# Altium integrated library Spansion Memory Flash.IntLib: 812 symbols (part 7 of 21)
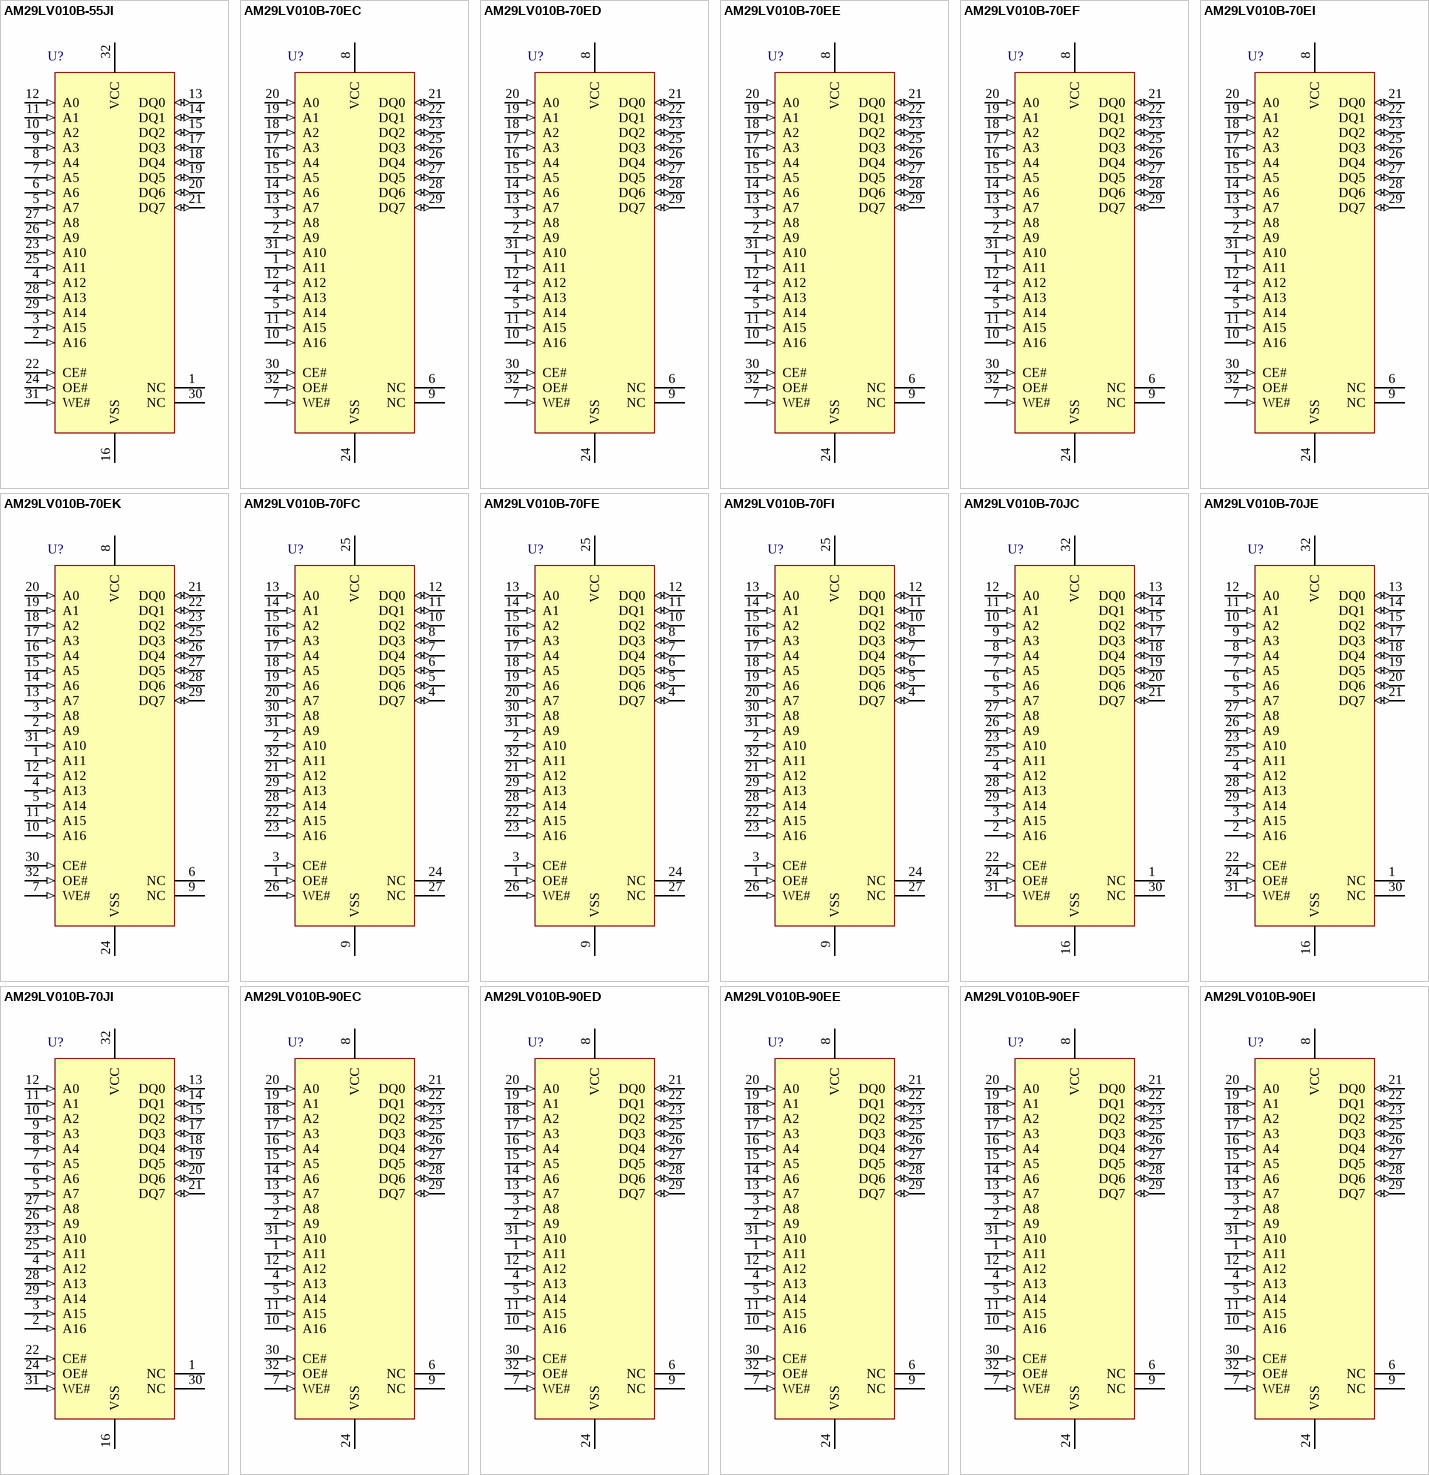
[diagram p72: symbols AM29LV010B-55JI to AM29LV010B-90EI]

## AM29LV010B-55JI
designator U?
1 Mb (128 K x 8) CMOS 3.0 Volt Uniform Sector Flash Memory, 32-Pin Rectangular PLCC, Industrial Grade; Published: 6-Oct-2005; DatasheetVersion: Jun-2005; PackageVersion: revAH, 10/99; PackageReference: PL032; Publisher: Altium Limited; PackageDescription: Leaded Chip Carrier, Plastic; 32 Leads; Body 11.4 x 14 mm; Code_JEDEC: MS-016-AE; Code_IPC: PLCC/R-32; ComponentLink1Description: Manufacturer Link; ComponentLink1URL: http://www.spansion.com/; ComponentLink2Description: Datasheet; ComponentLink2URL: http://www.spansion.com/datasheets/22140d3.pdf
footprint PL032 (Leaded Chip Carrier, Plastic; 32 Leads; Body 11.4 x 14 mm)
pins: 1 NC, 2 A16 (in), 3 A15 (in), 4 A12 (in), 5 A7 (in), 6 A6 (in), 7 A5 (in), 8 A4 (in), 9 A3 (in), 10 A2 (in), 11 A1 (in), 12 A0 (in), 13 DQ0 (io), 14 DQ1 (io), 15 DQ2 (io), 16 VSS (power), 17 DQ3 (io), 18 DQ4 (io), 19 DQ5 (io), 20 DQ6 (io), 21 DQ7 (io), 22 CE# (in), 23 A10 (in), 24 OE# (in), 25 A11 (in), 26 A9 (in), 27 A8 (in), 28 A13 (in), 29 A14 (in), 30 NC, 31 WE# (in), 32 VCC (power)

## AM29LV010B-70EC
designator U?
1 Mb (128 K x 8) CMOS 3.0 Volt Uniform Sector Flash Memory, 32-Pin TSOP Standard Pinout, Commercial Grade; Published: 6-Oct-2005; DatasheetVersion: Jun-2005; PackageVersion: revAA, 10/99; PackageReference: TS032; Publisher: Altium Limited; PackageDescription: Thin Small Outline; 32 Leads; Body Width 18.4 mm; Pitch 0.5 mm; Code_JEDEC: MO-142-BD; ComponentLink1Description: Manufacturer Link; ComponentLink1URL: http://www.spansion.com/; ComponentLink2Description: Datasheet; ComponentLink2URL: http://www.spansion.com/datasheets/22140d3.pdf
footprint TS032 (Thin Small Outline; 32 Leads; Body Width 18.4 mm; Pitch 0.5 mm)
pins: 1 A11 (in), 2 A9 (in), 3 A8 (in), 4 A13 (in), 5 A14 (in), 6 NC, 7 WE# (in), 8 VCC (power), 9 NC, 10 A16 (in), 11 A15 (in), 12 A12 (in), 13 A7 (in), 14 A6 (in), 15 A5 (in), 16 A4 (in), 17 A3 (in), 18 A2 (in), 19 A1 (in), 20 A0 (in), 21 DQ0 (io), 22 DQ1 (io), 23 DQ2 (io), 24 VSS (power), 25 DQ3 (io), 26 DQ4 (io), 27 DQ5 (io), 28 DQ6 (io), 29 DQ7 (io), 30 CE# (in), 31 A10 (in), 32 OE# (in)

## AM29LV010B-70ED
designator U?
1 Mb (128 K x 8) CMOS 3.0 Volt Uniform Sector Flash Memory, 32-Pin TSOP Standard Pinout, Commercial Grade, Pb-free; Published: 6-Oct-2005; DatasheetVersion: Jun-2005; PackageVersion: revAA, 10/99; PackageReference: TS032; Publisher: Altium Limited; PackageDescription: Thin Small Outline; 32 Leads; Body Width 18.4 mm; Pitch 0.5 mm; Code_JEDEC: MO-142-BD; ComponentLink1Description: Manufacturer Link; ComponentLink1URL: http://www.spansion.com/; ComponentLink2Description: Datasheet; ComponentLink2URL: http://www.spansion.com/datasheets/22140d3.pdf
footprint TS032 (Thin Small Outline; 32 Leads; Body Width 18.4 mm; Pitch 0.5 mm)
pins: 1 A11 (in), 2 A9 (in), 3 A8 (in), 4 A13 (in), 5 A14 (in), 6 NC, 7 WE# (in), 8 VCC (power), 9 NC, 10 A16 (in), 11 A15 (in), 12 A12 (in), 13 A7 (in), 14 A6 (in), 15 A5 (in), 16 A4 (in), 17 A3 (in), 18 A2 (in), 19 A1 (in), 20 A0 (in), 21 DQ0 (io), 22 DQ1 (io), 23 DQ2 (io), 24 VSS (power), 25 DQ3 (io), 26 DQ4 (io), 27 DQ5 (io), 28 DQ6 (io), 29 DQ7 (io), 30 CE# (in), 31 A10 (in), 32 OE# (in)

## AM29LV010B-70EE
designator U?
1 Mb (128 K x 8) CMOS 3.0 Volt Uniform Sector Flash Memory, 32-Pin TSOP Standard Pinout, Extended Grade; Published: 6-Oct-2005; DatasheetVersion: Jun-2005; PackageVersion: revAA, 10/99; PackageReference: TS032; Publisher: Altium Limited; PackageDescription: Thin Small Outline; 32 Leads; Body Width 18.4 mm; Pitch 0.5 mm; Code_JEDEC: MO-142-BD; ComponentLink1Description: Manufacturer Link; ComponentLink1URL: http://www.spansion.com/; ComponentLink2Description: Datasheet; ComponentLink2URL: http://www.spansion.com/datasheets/22140d3.pdf
footprint TS032 (Thin Small Outline; 32 Leads; Body Width 18.4 mm; Pitch 0.5 mm)
pins: 1 A11 (in), 2 A9 (in), 3 A8 (in), 4 A13 (in), 5 A14 (in), 6 NC, 7 WE# (in), 8 VCC (power), 9 NC, 10 A16 (in), 11 A15 (in), 12 A12 (in), 13 A7 (in), 14 A6 (in), 15 A5 (in), 16 A4 (in), 17 A3 (in), 18 A2 (in), 19 A1 (in), 20 A0 (in), 21 DQ0 (io), 22 DQ1 (io), 23 DQ2 (io), 24 VSS (power), 25 DQ3 (io), 26 DQ4 (io), 27 DQ5 (io), 28 DQ6 (io), 29 DQ7 (io), 30 CE# (in), 31 A10 (in), 32 OE# (in)

## AM29LV010B-70EF
designator U?
1 Mb (128 K x 8) CMOS 3.0 Volt Uniform Sector Flash Memory, 32-Pin TSOP Standard Pinout, Industrial Grade, Pb-free; Published: 6-Oct-2005; DatasheetVersion: Jun-2005; PackageVersion: revAA, 10/99; PackageReference: TS032; Publisher: Altium Limited; PackageDescription: Thin Small Outline; 32 Leads; Body Width 18.4 mm; Pitch 0.5 mm; Code_JEDEC: MO-142-BD; ComponentLink1Description: Manufacturer Link; ComponentLink1URL: http://www.spansion.com/; ComponentLink2Description: Datasheet; ComponentLink2URL: http://www.spansion.com/datasheets/22140d3.pdf
footprint TS032 (Thin Small Outline; 32 Leads; Body Width 18.4 mm; Pitch 0.5 mm)
pins: 1 A11 (in), 2 A9 (in), 3 A8 (in), 4 A13 (in), 5 A14 (in), 6 NC, 7 WE# (in), 8 VCC (power), 9 NC, 10 A16 (in), 11 A15 (in), 12 A12 (in), 13 A7 (in), 14 A6 (in), 15 A5 (in), 16 A4 (in), 17 A3 (in), 18 A2 (in), 19 A1 (in), 20 A0 (in), 21 DQ0 (io), 22 DQ1 (io), 23 DQ2 (io), 24 VSS (power), 25 DQ3 (io), 26 DQ4 (io), 27 DQ5 (io), 28 DQ6 (io), 29 DQ7 (io), 30 CE# (in), 31 A10 (in), 32 OE# (in)

## AM29LV010B-70EI
designator U?
1 Mb (128 K x 8) CMOS 3.0 Volt Uniform Sector Flash Memory, 32-Pin TSOP Standard Pinout, Industrial Grade; Published: 6-Oct-2005; DatasheetVersion: Jun-2005; PackageVersion: revAA, 10/99; PackageReference: TS032; Publisher: Altium Limited; PackageDescription: Thin Small Outline; 32 Leads; Body Width 18.4 mm; Pitch 0.5 mm; Code_JEDEC: MO-142-BD; ComponentLink1Description: Manufacturer Link; ComponentLink1URL: http://www.spansion.com/; ComponentLink2Description: Datasheet; ComponentLink2URL: http://www.spansion.com/datasheets/22140d3.pdf
footprint TS032 (Thin Small Outline; 32 Leads; Body Width 18.4 mm; Pitch 0.5 mm)
pins: 1 A11 (in), 2 A9 (in), 3 A8 (in), 4 A13 (in), 5 A14 (in), 6 NC, 7 WE# (in), 8 VCC (power), 9 NC, 10 A16 (in), 11 A15 (in), 12 A12 (in), 13 A7 (in), 14 A6 (in), 15 A5 (in), 16 A4 (in), 17 A3 (in), 18 A2 (in), 19 A1 (in), 20 A0 (in), 21 DQ0 (io), 22 DQ1 (io), 23 DQ2 (io), 24 VSS (power), 25 DQ3 (io), 26 DQ4 (io), 27 DQ5 (io), 28 DQ6 (io), 29 DQ7 (io), 30 CE# (in), 31 A10 (in), 32 OE# (in)

## AM29LV010B-70EK
designator U?
1 Mb (128 K x 8) CMOS 3.0 Volt Uniform Sector Flash Memory, 32-Pin TSOP Standard Pinout, Extended Grade, Pb-free; Published: 6-Oct-2005; DatasheetVersion: Jun-2005; PackageVersion: revAA, 10/99; PackageReference: TS032; Publisher: Altium Limited; PackageDescription: Thin Small Outline; 32 Leads; Body Width 18.4 mm; Pitch 0.5 mm; Code_JEDEC: MO-142-BD; ComponentLink1Description: Manufacturer Link; ComponentLink1URL: http://www.spansion.com/; ComponentLink2Description: Datasheet; ComponentLink2URL: http://www.spansion.com/datasheets/22140d3.pdf
footprint TS032 (Thin Small Outline; 32 Leads; Body Width 18.4 mm; Pitch 0.5 mm)
pins: 1 A11 (in), 2 A9 (in), 3 A8 (in), 4 A13 (in), 5 A14 (in), 6 NC, 7 WE# (in), 8 VCC (power), 9 NC, 10 A16 (in), 11 A15 (in), 12 A12 (in), 13 A7 (in), 14 A6 (in), 15 A5 (in), 16 A4 (in), 17 A3 (in), 18 A2 (in), 19 A1 (in), 20 A0 (in), 21 DQ0 (io), 22 DQ1 (io), 23 DQ2 (io), 24 VSS (power), 25 DQ3 (io), 26 DQ4 (io), 27 DQ5 (io), 28 DQ6 (io), 29 DQ7 (io), 30 CE# (in), 31 A10 (in), 32 OE# (in)

## AM29LV010B-70FC
designator U?
1 Mb (128 K x 8) CMOS 3.0 Volt Uniform Sector Flash Memory, 32-Pin TSOP Reverse Pinout, Commercial Grade; Published: 6-Oct-2005; DatasheetVersion: Jun-2005; PackageVersion: revAA, 10/99; PackageReference: TSR032; Publisher: Altium Limited; PackageDescription: Thin Small Outline, Reverse Pinout; 32 Leads; Body Width 18.4 mm; Pitch 0.5 mm; Code_JEDEC: MO-142-BD; ComponentLink1Description: Manufacturer Link; ComponentLink1URL: http://www.spansion.com/; ComponentLink2Description: Datasheet; ComponentLink2URL: http://www.spansion.com/datasheets/22140d3.pdf
footprint TSR032 (Thin Small Outline, Reverse Pinout; 32 Leads; Body Width 18.4 mm; Pitch 0.5 mm)
pins: 1 OE# (in), 2 A10 (in), 3 CE# (in), 4 DQ7 (io), 5 DQ6 (io), 6 DQ5 (io), 7 DQ4 (io), 8 DQ3 (io), 9 VSS (power), 10 DQ2 (io), 11 DQ1 (io), 12 DQ0 (io), 13 A0 (in), 14 A1 (in), 15 A2 (in), 16 A3 (in), 17 A4 (in), 18 A5 (in), 19 A6 (in), 20 A7 (in), 21 A12 (in), 22 A15 (in), 23 A16 (in), 24 NC, 25 VCC (power), 26 WE# (in), 27 NC, 28 A14 (in), 29 A13 (in), 30 A8 (in), 31 A9 (in), 32 A11 (in)

## AM29LV010B-70FE
designator U?
1 Mb (128 K x 8) CMOS 3.0 Volt Uniform Sector Flash Memory, 32-Pin TSOP Reverse Pinout, Extended Grade; Published: 6-Oct-2005; DatasheetVersion: Jun-2005; PackageVersion: revAA, 10/99; PackageReference: TSR032; Publisher: Altium Limited; PackageDescription: Thin Small Outline, Reverse Pinout; 32 Leads; Body Width 18.4 mm; Pitch 0.5 mm; Code_JEDEC: MO-142-BD; ComponentLink1Description: Manufacturer Link; ComponentLink1URL: http://www.spansion.com/; ComponentLink2Description: Datasheet; ComponentLink2URL: http://www.spansion.com/datasheets/22140d3.pdf
footprint TSR032 (Thin Small Outline, Reverse Pinout; 32 Leads; Body Width 18.4 mm; Pitch 0.5 mm)
pins: 1 OE# (in), 2 A10 (in), 3 CE# (in), 4 DQ7 (io), 5 DQ6 (io), 6 DQ5 (io), 7 DQ4 (io), 8 DQ3 (io), 9 VSS (power), 10 DQ2 (io), 11 DQ1 (io), 12 DQ0 (io), 13 A0 (in), 14 A1 (in), 15 A2 (in), 16 A3 (in), 17 A4 (in), 18 A5 (in), 19 A6 (in), 20 A7 (in), 21 A12 (in), 22 A15 (in), 23 A16 (in), 24 NC, 25 VCC (power), 26 WE# (in), 27 NC, 28 A14 (in), 29 A13 (in), 30 A8 (in), 31 A9 (in), 32 A11 (in)

## AM29LV010B-70FI
designator U?
1 Mb (128 K x 8) CMOS 3.0 Volt Uniform Sector Flash Memory, 32-Pin TSOP Reverse Pinout, Industrial Grade; Published: 6-Oct-2005; DatasheetVersion: Jun-2005; PackageVersion: revAA, 10/99; PackageReference: TSR032; Publisher: Altium Limited; PackageDescription: Thin Small Outline, Reverse Pinout; 32 Leads; Body Width 18.4 mm; Pitch 0.5 mm; Code_JEDEC: MO-142-BD; ComponentLink1Description: Manufacturer Link; ComponentLink1URL: http://www.spansion.com/; ComponentLink2Description: Datasheet; ComponentLink2URL: http://www.spansion.com/datasheets/22140d3.pdf
footprint TSR032 (Thin Small Outline, Reverse Pinout; 32 Leads; Body Width 18.4 mm; Pitch 0.5 mm)
pins: 1 OE# (in), 2 A10 (in), 3 CE# (in), 4 DQ7 (io), 5 DQ6 (io), 6 DQ5 (io), 7 DQ4 (io), 8 DQ3 (io), 9 VSS (power), 10 DQ2 (io), 11 DQ1 (io), 12 DQ0 (io), 13 A0 (in), 14 A1 (in), 15 A2 (in), 16 A3 (in), 17 A4 (in), 18 A5 (in), 19 A6 (in), 20 A7 (in), 21 A12 (in), 22 A15 (in), 23 A16 (in), 24 NC, 25 VCC (power), 26 WE# (in), 27 NC, 28 A14 (in), 29 A13 (in), 30 A8 (in), 31 A9 (in), 32 A11 (in)

## AM29LV010B-70JC
designator U?
1 Mb (128 K x 8) CMOS 3.0 Volt Uniform Sector Flash Memory, 32-Pin Rectangular PLCC, Commercial Grade; Published: 6-Oct-2005; DatasheetVersion: Jun-2005; PackageVersion: revAH, 10/99; PackageReference: PL032; Publisher: Altium Limited; PackageDescription: Leaded Chip Carrier, Plastic; 32 Leads; Body 11.4 x 14 mm; Code_JEDEC: MS-016-AE; Code_IPC: PLCC/R-32; ComponentLink1Description: Manufacturer Link; ComponentLink1URL: http://www.spansion.com/; ComponentLink2Description: Datasheet; ComponentLink2URL: http://www.spansion.com/datasheets/22140d3.pdf
footprint PL032 (Leaded Chip Carrier, Plastic; 32 Leads; Body 11.4 x 14 mm)
pins: 1 NC, 2 A16 (in), 3 A15 (in), 4 A12 (in), 5 A7 (in), 6 A6 (in), 7 A5 (in), 8 A4 (in), 9 A3 (in), 10 A2 (in), 11 A1 (in), 12 A0 (in), 13 DQ0 (io), 14 DQ1 (io), 15 DQ2 (io), 16 VSS (power), 17 DQ3 (io), 18 DQ4 (io), 19 DQ5 (io), 20 DQ6 (io), 21 DQ7 (io), 22 CE# (in), 23 A10 (in), 24 OE# (in), 25 A11 (in), 26 A9 (in), 27 A8 (in), 28 A13 (in), 29 A14 (in), 30 NC, 31 WE# (in), 32 VCC (power)

## AM29LV010B-70JE
designator U?
1 Mb (128 K x 8) CMOS 3.0 Volt Uniform Sector Flash Memory, 32-Pin Rectangular PLCC, Extended Grade; Published: 6-Oct-2005; DatasheetVersion: Jun-2005; PackageVersion: revAH, 10/99; PackageReference: PL032; Publisher: Altium Limited; PackageDescription: Leaded Chip Carrier, Plastic; 32 Leads; Body 11.4 x 14 mm; Code_JEDEC: MS-016-AE; Code_IPC: PLCC/R-32; ComponentLink1Description: Manufacturer Link; ComponentLink1URL: http://www.spansion.com/; ComponentLink2Description: Datasheet; ComponentLink2URL: http://www.spansion.com/datasheets/22140d3.pdf
footprint PL032 (Leaded Chip Carrier, Plastic; 32 Leads; Body 11.4 x 14 mm)
pins: 1 NC, 2 A16 (in), 3 A15 (in), 4 A12 (in), 5 A7 (in), 6 A6 (in), 7 A5 (in), 8 A4 (in), 9 A3 (in), 10 A2 (in), 11 A1 (in), 12 A0 (in), 13 DQ0 (io), 14 DQ1 (io), 15 DQ2 (io), 16 VSS (power), 17 DQ3 (io), 18 DQ4 (io), 19 DQ5 (io), 20 DQ6 (io), 21 DQ7 (io), 22 CE# (in), 23 A10 (in), 24 OE# (in), 25 A11 (in), 26 A9 (in), 27 A8 (in), 28 A13 (in), 29 A14 (in), 30 NC, 31 WE# (in), 32 VCC (power)

## AM29LV010B-70JI
designator U?
1 Mb (128 K x 8) CMOS 3.0 Volt Uniform Sector Flash Memory, 32-Pin Rectangular PLCC, Industrial Grade; Published: 6-Oct-2005; DatasheetVersion: Jun-2005; PackageVersion: revAH, 10/99; PackageReference: PL032; Publisher: Altium Limited; PackageDescription: Leaded Chip Carrier, Plastic; 32 Leads; Body 11.4 x 14 mm; Code_JEDEC: MS-016-AE; Code_IPC: PLCC/R-32; ComponentLink1Description: Manufacturer Link; ComponentLink1URL: http://www.spansion.com/; ComponentLink2Description: Datasheet; ComponentLink2URL: http://www.spansion.com/datasheets/22140d3.pdf
footprint PL032 (Leaded Chip Carrier, Plastic; 32 Leads; Body 11.4 x 14 mm)
pins: 1 NC, 2 A16 (in), 3 A15 (in), 4 A12 (in), 5 A7 (in), 6 A6 (in), 7 A5 (in), 8 A4 (in), 9 A3 (in), 10 A2 (in), 11 A1 (in), 12 A0 (in), 13 DQ0 (io), 14 DQ1 (io), 15 DQ2 (io), 16 VSS (power), 17 DQ3 (io), 18 DQ4 (io), 19 DQ5 (io), 20 DQ6 (io), 21 DQ7 (io), 22 CE# (in), 23 A10 (in), 24 OE# (in), 25 A11 (in), 26 A9 (in), 27 A8 (in), 28 A13 (in), 29 A14 (in), 30 NC, 31 WE# (in), 32 VCC (power)

## AM29LV010B-90EC
designator U?
1 Mb (128 K x 8) CMOS 3.0 Volt Uniform Sector Flash Memory, 32-Pin TSOP Standard Pinout, Commercial Grade; Published: 6-Oct-2005; DatasheetVersion: Jun-2005; PackageVersion: revAA, 10/99; PackageReference: TS032; Publisher: Altium Limited; PackageDescription: Thin Small Outline; 32 Leads; Body Width 18.4 mm; Pitch 0.5 mm; Code_JEDEC: MO-142-BD; ComponentLink1Description: Manufacturer Link; ComponentLink1URL: http://www.spansion.com/; ComponentLink2Description: Datasheet; ComponentLink2URL: http://www.spansion.com/datasheets/22140d3.pdf
footprint TS032 (Thin Small Outline; 32 Leads; Body Width 18.4 mm; Pitch 0.5 mm)
pins: 1 A11 (in), 2 A9 (in), 3 A8 (in), 4 A13 (in), 5 A14 (in), 6 NC, 7 WE# (in), 8 VCC (power), 9 NC, 10 A16 (in), 11 A15 (in), 12 A12 (in), 13 A7 (in), 14 A6 (in), 15 A5 (in), 16 A4 (in), 17 A3 (in), 18 A2 (in), 19 A1 (in), 20 A0 (in), 21 DQ0 (io), 22 DQ1 (io), 23 DQ2 (io), 24 VSS (power), 25 DQ3 (io), 26 DQ4 (io), 27 DQ5 (io), 28 DQ6 (io), 29 DQ7 (io), 30 CE# (in), 31 A10 (in), 32 OE# (in)

## AM29LV010B-90ED
designator U?
1 Mb (128 K x 8) CMOS 3.0 Volt Uniform Sector Flash Memory, 32-Pin TSOP Standard Pinout, Commercial Grade, Pb-free; Published: 6-Oct-2005; DatasheetVersion: Jun-2005; PackageVersion: revAA, 10/99; PackageReference: TS032; Publisher: Altium Limited; PackageDescription: Thin Small Outline; 32 Leads; Body Width 18.4 mm; Pitch 0.5 mm; Code_JEDEC: MO-142-BD; ComponentLink1Description: Manufacturer Link; ComponentLink1URL: http://www.spansion.com/; ComponentLink2Description: Datasheet; ComponentLink2URL: http://www.spansion.com/datasheets/22140d3.pdf
footprint TS032 (Thin Small Outline; 32 Leads; Body Width 18.4 mm; Pitch 0.5 mm)
pins: 1 A11 (in), 2 A9 (in), 3 A8 (in), 4 A13 (in), 5 A14 (in), 6 NC, 7 WE# (in), 8 VCC (power), 9 NC, 10 A16 (in), 11 A15 (in), 12 A12 (in), 13 A7 (in), 14 A6 (in), 15 A5 (in), 16 A4 (in), 17 A3 (in), 18 A2 (in), 19 A1 (in), 20 A0 (in), 21 DQ0 (io), 22 DQ1 (io), 23 DQ2 (io), 24 VSS (power), 25 DQ3 (io), 26 DQ4 (io), 27 DQ5 (io), 28 DQ6 (io), 29 DQ7 (io), 30 CE# (in), 31 A10 (in), 32 OE# (in)

## AM29LV010B-90EE
designator U?
1 Mb (128 K x 8) CMOS 3.0 Volt Uniform Sector Flash Memory, 32-Pin TSOP Standard Pinout, Extended Grade; Published: 6-Oct-2005; DatasheetVersion: Jun-2005; PackageVersion: revAA, 10/99; PackageReference: TS032; Publisher: Altium Limited; PackageDescription: Thin Small Outline; 32 Leads; Body Width 18.4 mm; Pitch 0.5 mm; Code_JEDEC: MO-142-BD; ComponentLink1Description: Manufacturer Link; ComponentLink1URL: http://www.spansion.com/; ComponentLink2Description: Datasheet; ComponentLink2URL: http://www.spansion.com/datasheets/22140d3.pdf
footprint TS032 (Thin Small Outline; 32 Leads; Body Width 18.4 mm; Pitch 0.5 mm)
pins: 1 A11 (in), 2 A9 (in), 3 A8 (in), 4 A13 (in), 5 A14 (in), 6 NC, 7 WE# (in), 8 VCC (power), 9 NC, 10 A16 (in), 11 A15 (in), 12 A12 (in), 13 A7 (in), 14 A6 (in), 15 A5 (in), 16 A4 (in), 17 A3 (in), 18 A2 (in), 19 A1 (in), 20 A0 (in), 21 DQ0 (io), 22 DQ1 (io), 23 DQ2 (io), 24 VSS (power), 25 DQ3 (io), 26 DQ4 (io), 27 DQ5 (io), 28 DQ6 (io), 29 DQ7 (io), 30 CE# (in), 31 A10 (in), 32 OE# (in)

## AM29LV010B-90EF
designator U?
1 Mb (128 K x 8) CMOS 3.0 Volt Uniform Sector Flash Memory, 32-Pin TSOP Standard Pinout, Industrial Grade, Pb-free; Published: 6-Oct-2005; DatasheetVersion: Jun-2005; PackageVersion: revAA, 10/99; PackageReference: TS032; Publisher: Altium Limited; PackageDescription: Thin Small Outline; 32 Leads; Body Width 18.4 mm; Pitch 0.5 mm; Code_JEDEC: MO-142-BD; ComponentLink1Description: Manufacturer Link; ComponentLink1URL: http://www.spansion.com/; ComponentLink2Description: Datasheet; ComponentLink2URL: http://www.spansion.com/datasheets/22140d3.pdf
footprint TS032 (Thin Small Outline; 32 Leads; Body Width 18.4 mm; Pitch 0.5 mm)
pins: 1 A11 (in), 2 A9 (in), 3 A8 (in), 4 A13 (in), 5 A14 (in), 6 NC, 7 WE# (in), 8 VCC (power), 9 NC, 10 A16 (in), 11 A15 (in), 12 A12 (in), 13 A7 (in), 14 A6 (in), 15 A5 (in), 16 A4 (in), 17 A3 (in), 18 A2 (in), 19 A1 (in), 20 A0 (in), 21 DQ0 (io), 22 DQ1 (io), 23 DQ2 (io), 24 VSS (power), 25 DQ3 (io), 26 DQ4 (io), 27 DQ5 (io), 28 DQ6 (io), 29 DQ7 (io), 30 CE# (in), 31 A10 (in), 32 OE# (in)

## AM29LV010B-90EI
designator U?
1 Mb (128 K x 8) CMOS 3.0 Volt Uniform Sector Flash Memory, 32-Pin TSOP Standard Pinout, Industrial Grade; Published: 6-Oct-2005; DatasheetVersion: Jun-2005; PackageVersion: revAA, 10/99; PackageReference: TS032; Publisher: Altium Limited; PackageDescription: Thin Small Outline; 32 Leads; Body Width 18.4 mm; Pitch 0.5 mm; Code_JEDEC: MO-142-BD; ComponentLink1Description: Manufacturer Link; ComponentLink1URL: http://www.spansion.com/; ComponentLink2Description: Datasheet; ComponentLink2URL: http://www.spansion.com/datasheets/22140d3.pdf
footprint TS032 (Thin Small Outline; 32 Leads; Body Width 18.4 mm; Pitch 0.5 mm)
pins: 1 A11 (in), 2 A9 (in), 3 A8 (in), 4 A13 (in), 5 A14 (in), 6 NC, 7 WE# (in), 8 VCC (power), 9 NC, 10 A16 (in), 11 A15 (in), 12 A12 (in), 13 A7 (in), 14 A6 (in), 15 A5 (in), 16 A4 (in), 17 A3 (in), 18 A2 (in), 19 A1 (in), 20 A0 (in), 21 DQ0 (io), 22 DQ1 (io), 23 DQ2 (io), 24 VSS (power), 25 DQ3 (io), 26 DQ4 (io), 27 DQ5 (io), 28 DQ6 (io), 29 DQ7 (io), 30 CE# (in), 31 A10 (in), 32 OE# (in)

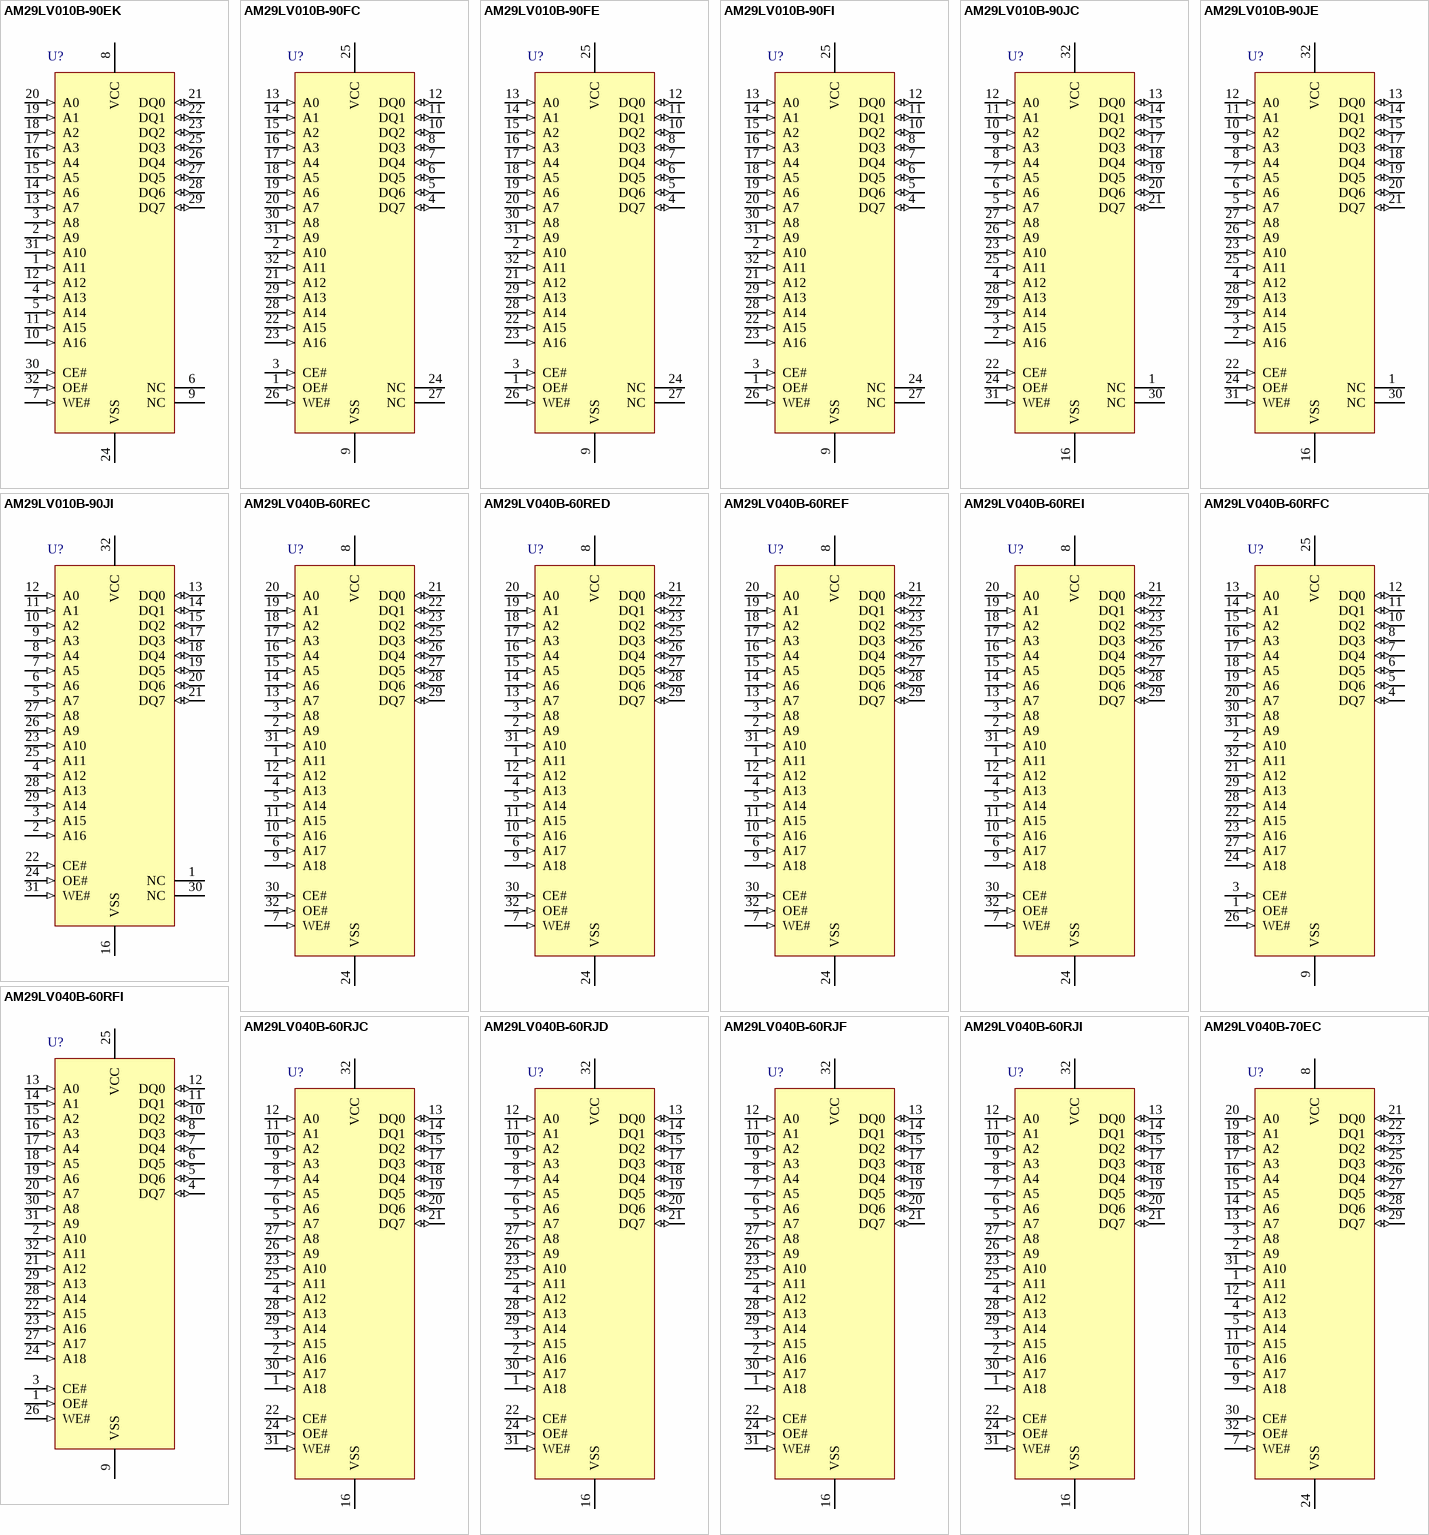
[diagram p20: symbols AM29LV010B-90EK to AM29LV040B-70EC]

## AM29LV010B-90EK
designator U?
1 Mb (128 K x 8) CMOS 3.0 Volt Uniform Sector Flash Memory, 32-Pin TSOP Standard Pinout, Extended Grade, Pb-free; Published: 6-Oct-2005; DatasheetVersion: Jun-2005; PackageVersion: revAA, 10/99; PackageReference: TS032; Publisher: Altium Limited; PackageDescription: Thin Small Outline; 32 Leads; Body Width 18.4 mm; Pitch 0.5 mm; Code_JEDEC: MO-142-BD; ComponentLink1Description: Manufacturer Link; ComponentLink1URL: http://www.spansion.com/; ComponentLink2Description: Datasheet; ComponentLink2URL: http://www.spansion.com/datasheets/22140d3.pdf
footprint TS032 (Thin Small Outline; 32 Leads; Body Width 18.4 mm; Pitch 0.5 mm)
pins: 1 A11 (in), 2 A9 (in), 3 A8 (in), 4 A13 (in), 5 A14 (in), 6 NC, 7 WE# (in), 8 VCC (power), 9 NC, 10 A16 (in), 11 A15 (in), 12 A12 (in), 13 A7 (in), 14 A6 (in), 15 A5 (in), 16 A4 (in), 17 A3 (in), 18 A2 (in), 19 A1 (in), 20 A0 (in), 21 DQ0 (io), 22 DQ1 (io), 23 DQ2 (io), 24 VSS (power), 25 DQ3 (io), 26 DQ4 (io), 27 DQ5 (io), 28 DQ6 (io), 29 DQ7 (io), 30 CE# (in), 31 A10 (in), 32 OE# (in)

## AM29LV010B-90FC
designator U?
1 Mb (128 K x 8) CMOS 3.0 Volt Uniform Sector Flash Memory, 32-Pin TSOP Reverse Pinout, Commercial Grade; Published: 6-Oct-2005; DatasheetVersion: Jun-2005; PackageVersion: revAA, 10/99; PackageReference: TSR032; Publisher: Altium Limited; PackageDescription: Thin Small Outline, Reverse Pinout; 32 Leads; Body Width 18.4 mm; Pitch 0.5 mm; Code_JEDEC: MO-142-BD; ComponentLink1Description: Manufacturer Link; ComponentLink1URL: http://www.spansion.com/; ComponentLink2Description: Datasheet; ComponentLink2URL: http://www.spansion.com/datasheets/22140d3.pdf
footprint TSR032 (Thin Small Outline, Reverse Pinout; 32 Leads; Body Width 18.4 mm; Pitch 0.5 mm)
pins: 1 OE# (in), 2 A10 (in), 3 CE# (in), 4 DQ7 (io), 5 DQ6 (io), 6 DQ5 (io), 7 DQ4 (io), 8 DQ3 (io), 9 VSS (power), 10 DQ2 (io), 11 DQ1 (io), 12 DQ0 (io), 13 A0 (in), 14 A1 (in), 15 A2 (in), 16 A3 (in), 17 A4 (in), 18 A5 (in), 19 A6 (in), 20 A7 (in), 21 A12 (in), 22 A15 (in), 23 A16 (in), 24 NC, 25 VCC (power), 26 WE# (in), 27 NC, 28 A14 (in), 29 A13 (in), 30 A8 (in), 31 A9 (in), 32 A11 (in)

## AM29LV010B-90FE
designator U?
1 Mb (128 K x 8) CMOS 3.0 Volt Uniform Sector Flash Memory, 32-Pin TSOP Reverse Pinout, Extended Grade; Published: 6-Oct-2005; DatasheetVersion: Jun-2005; PackageVersion: revAA, 10/99; PackageReference: TSR032; Publisher: Altium Limited; PackageDescription: Thin Small Outline, Reverse Pinout; 32 Leads; Body Width 18.4 mm; Pitch 0.5 mm; Code_JEDEC: MO-142-BD; ComponentLink1Description: Manufacturer Link; ComponentLink1URL: http://www.spansion.com/; ComponentLink2Description: Datasheet; ComponentLink2URL: http://www.spansion.com/datasheets/22140d3.pdf
footprint TSR032 (Thin Small Outline, Reverse Pinout; 32 Leads; Body Width 18.4 mm; Pitch 0.5 mm)
pins: 1 OE# (in), 2 A10 (in), 3 CE# (in), 4 DQ7 (io), 5 DQ6 (io), 6 DQ5 (io), 7 DQ4 (io), 8 DQ3 (io), 9 VSS (power), 10 DQ2 (io), 11 DQ1 (io), 12 DQ0 (io), 13 A0 (in), 14 A1 (in), 15 A2 (in), 16 A3 (in), 17 A4 (in), 18 A5 (in), 19 A6 (in), 20 A7 (in), 21 A12 (in), 22 A15 (in), 23 A16 (in), 24 NC, 25 VCC (power), 26 WE# (in), 27 NC, 28 A14 (in), 29 A13 (in), 30 A8 (in), 31 A9 (in), 32 A11 (in)

## AM29LV010B-90FI
designator U?
1 Mb (128 K x 8) CMOS 3.0 Volt Uniform Sector Flash Memory, 32-Pin TSOP Reverse Pinout, Industrial Grade; Published: 6-Oct-2005; DatasheetVersion: Jun-2005; PackageVersion: revAA, 10/99; PackageReference: TSR032; Publisher: Altium Limited; PackageDescription: Thin Small Outline, Reverse Pinout; 32 Leads; Body Width 18.4 mm; Pitch 0.5 mm; Code_JEDEC: MO-142-BD; ComponentLink1Description: Manufacturer Link; ComponentLink1URL: http://www.spansion.com/; ComponentLink2Description: Datasheet; ComponentLink2URL: http://www.spansion.com/datasheets/22140d3.pdf
footprint TSR032 (Thin Small Outline, Reverse Pinout; 32 Leads; Body Width 18.4 mm; Pitch 0.5 mm)
pins: 1 OE# (in), 2 A10 (in), 3 CE# (in), 4 DQ7 (io), 5 DQ6 (io), 6 DQ5 (io), 7 DQ4 (io), 8 DQ3 (io), 9 VSS (power), 10 DQ2 (io), 11 DQ1 (io), 12 DQ0 (io), 13 A0 (in), 14 A1 (in), 15 A2 (in), 16 A3 (in), 17 A4 (in), 18 A5 (in), 19 A6 (in), 20 A7 (in), 21 A12 (in), 22 A15 (in), 23 A16 (in), 24 NC, 25 VCC (power), 26 WE# (in), 27 NC, 28 A14 (in), 29 A13 (in), 30 A8 (in), 31 A9 (in), 32 A11 (in)

## AM29LV010B-90JC
designator U?
1 Mb (128 K x 8) CMOS 3.0 Volt Uniform Sector Flash Memory, 32-Pin Rectangular PLCC, Commercial Grade; Published: 6-Oct-2005; DatasheetVersion: Jun-2005; PackageVersion: revAH, 10/99; PackageReference: PL032; Publisher: Altium Limited; PackageDescription: Leaded Chip Carrier, Plastic; 32 Leads; Body 11.4 x 14 mm; Code_JEDEC: MS-016-AE; Code_IPC: PLCC/R-32; ComponentLink1Description: Manufacturer Link; ComponentLink1URL: http://www.spansion.com/; ComponentLink2Description: Datasheet; ComponentLink2URL: http://www.spansion.com/datasheets/22140d3.pdf
footprint PL032 (Leaded Chip Carrier, Plastic; 32 Leads; Body 11.4 x 14 mm)
pins: 1 NC, 2 A16 (in), 3 A15 (in), 4 A12 (in), 5 A7 (in), 6 A6 (in), 7 A5 (in), 8 A4 (in), 9 A3 (in), 10 A2 (in), 11 A1 (in), 12 A0 (in), 13 DQ0 (io), 14 DQ1 (io), 15 DQ2 (io), 16 VSS (power), 17 DQ3 (io), 18 DQ4 (io), 19 DQ5 (io), 20 DQ6 (io), 21 DQ7 (io), 22 CE# (in), 23 A10 (in), 24 OE# (in), 25 A11 (in), 26 A9 (in), 27 A8 (in), 28 A13 (in), 29 A14 (in), 30 NC, 31 WE# (in), 32 VCC (power)

## AM29LV010B-90JE
designator U?
1 Mb (128 K x 8) CMOS 3.0 Volt Uniform Sector Flash Memory, 32-Pin Rectangular PLCC, Extended Grade; Published: 6-Oct-2005; DatasheetVersion: Jun-2005; PackageVersion: revAH, 10/99; PackageReference: PL032; Publisher: Altium Limited; PackageDescription: Leaded Chip Carrier, Plastic; 32 Leads; Body 11.4 x 14 mm; Code_JEDEC: MS-016-AE; Code_IPC: PLCC/R-32; ComponentLink1Description: Manufacturer Link; ComponentLink1URL: http://www.spansion.com/; ComponentLink2Description: Datasheet; ComponentLink2URL: http://www.spansion.com/datasheets/22140d3.pdf
footprint PL032 (Leaded Chip Carrier, Plastic; 32 Leads; Body 11.4 x 14 mm)
pins: 1 NC, 2 A16 (in), 3 A15 (in), 4 A12 (in), 5 A7 (in), 6 A6 (in), 7 A5 (in), 8 A4 (in), 9 A3 (in), 10 A2 (in), 11 A1 (in), 12 A0 (in), 13 DQ0 (io), 14 DQ1 (io), 15 DQ2 (io), 16 VSS (power), 17 DQ3 (io), 18 DQ4 (io), 19 DQ5 (io), 20 DQ6 (io), 21 DQ7 (io), 22 CE# (in), 23 A10 (in), 24 OE# (in), 25 A11 (in), 26 A9 (in), 27 A8 (in), 28 A13 (in), 29 A14 (in), 30 NC, 31 WE# (in), 32 VCC (power)

## AM29LV010B-90JI
designator U?
1 Mb (128 K x 8) CMOS 3.0 Volt Uniform Sector Flash Memory, 32-Pin Rectangular PLCC, Industrial Grade; Published: 6-Oct-2005; DatasheetVersion: Jun-2005; PackageVersion: revAH, 10/99; PackageReference: PL032; Publisher: Altium Limited; PackageDescription: Leaded Chip Carrier, Plastic; 32 Leads; Body 11.4 x 14 mm; Code_JEDEC: MS-016-AE; Code_IPC: PLCC/R-32; ComponentLink1Description: Manufacturer Link; ComponentLink1URL: http://www.spansion.com/; ComponentLink2Description: Datasheet; ComponentLink2URL: http://www.spansion.com/datasheets/22140d3.pdf
footprint PL032 (Leaded Chip Carrier, Plastic; 32 Leads; Body 11.4 x 14 mm)
pins: 1 NC, 2 A16 (in), 3 A15 (in), 4 A12 (in), 5 A7 (in), 6 A6 (in), 7 A5 (in), 8 A4 (in), 9 A3 (in), 10 A2 (in), 11 A1 (in), 12 A0 (in), 13 DQ0 (io), 14 DQ1 (io), 15 DQ2 (io), 16 VSS (power), 17 DQ3 (io), 18 DQ4 (io), 19 DQ5 (io), 20 DQ6 (io), 21 DQ7 (io), 22 CE# (in), 23 A10 (in), 24 OE# (in), 25 A11 (in), 26 A9 (in), 27 A8 (in), 28 A13 (in), 29 A14 (in), 30 NC, 31 WE# (in), 32 VCC (power)

## AM29LV040B-60REC
designator U?
4 Mb (512 K x 8) CMOS 3.0 Volt Uniform Sector Flash Memory, 32-Pin TSOP Standard Pinout, Commercial Grade; Published: 6-Oct-2005; DatasheetVersion: Jul-2005; PackageVersion: revAA, 10/99; PackageReference: TS032; Publisher: Altium Limited; PackageDescription: Thin Small Outline; 32 Leads; Body Width 18.4 mm; Pitch 0.5 mm; Code_JEDEC: MO-142-BD; ComponentLink1Description: Manufacturer Link; ComponentLink1URL: http://www.spansion.com/; ComponentLink2Description: Datasheet; ComponentLink2URL: http://www.spansion.com/datasheets/21354e2.pdf
footprint TS032 (Thin Small Outline; 32 Leads; Body Width 18.4 mm; Pitch 0.5 mm)
pins: 1 A11 (in), 2 A9 (in), 3 A8 (in), 4 A13 (in), 5 A14 (in), 6 A17 (in), 7 WE# (in), 8 VCC (power), 9 A18 (in), 10 A16 (in), 11 A15 (in), 12 A12 (in), 13 A7 (in), 14 A6 (in), 15 A5 (in), 16 A4 (in), 17 A3 (in), 18 A2 (in), 19 A1 (in), 20 A0 (in), 21 DQ0 (io), 22 DQ1 (io), 23 DQ2 (io), 24 VSS (power), 25 DQ3 (io), 26 DQ4 (io), 27 DQ5 (io), 28 DQ6 (io), 29 DQ7 (io), 30 CE# (in), 31 A10 (in), 32 OE# (in)

## AM29LV040B-60RED
designator U?
4 Mb (512 K x 8) CMOS 3.0 Volt Uniform Sector Flash Memory, 32-Pin TSOP Standard Pinout, Commercial Grade, Pb-free; Published: 6-Oct-2005; DatasheetVersion: Jul-2005; PackageVersion: revAA, 10/99; PackageReference: TS032; Publisher: Altium Limited; PackageDescription: Thin Small Outline; 32 Leads; Body Width 18.4 mm; Pitch 0.5 mm; Code_JEDEC: MO-142-BD; ComponentLink1Description: Manufacturer Link; ComponentLink1URL: http://www.spansion.com/; ComponentLink2Description: Datasheet; ComponentLink2URL: http://www.spansion.com/datasheets/21354e2.pdf
footprint TS032 (Thin Small Outline; 32 Leads; Body Width 18.4 mm; Pitch 0.5 mm)
pins: 1 A11 (in), 2 A9 (in), 3 A8 (in), 4 A13 (in), 5 A14 (in), 6 A17 (in), 7 WE# (in), 8 VCC (power), 9 A18 (in), 10 A16 (in), 11 A15 (in), 12 A12 (in), 13 A7 (in), 14 A6 (in), 15 A5 (in), 16 A4 (in), 17 A3 (in), 18 A2 (in), 19 A1 (in), 20 A0 (in), 21 DQ0 (io), 22 DQ1 (io), 23 DQ2 (io), 24 VSS (power), 25 DQ3 (io), 26 DQ4 (io), 27 DQ5 (io), 28 DQ6 (io), 29 DQ7 (io), 30 CE# (in), 31 A10 (in), 32 OE# (in)

## AM29LV040B-60REF
designator U?
4 Mb (512 K x 8) CMOS 3.0 Volt Uniform Sector Flash Memory, 32-Pin TSOP Standard Pinout, Industrial Grade, Pb-free; Published: 6-Oct-2005; DatasheetVersion: Jul-2005; PackageVersion: revAA, 10/99; PackageReference: TS032; Publisher: Altium Limited; PackageDescription: Thin Small Outline; 32 Leads; Body Width 18.4 mm; Pitch 0.5 mm; Code_JEDEC: MO-142-BD; ComponentLink1Description: Manufacturer Link; ComponentLink1URL: http://www.spansion.com/; ComponentLink2Description: Datasheet; ComponentLink2URL: http://www.spansion.com/datasheets/21354e2.pdf
footprint TS032 (Thin Small Outline; 32 Leads; Body Width 18.4 mm; Pitch 0.5 mm)
pins: 1 A11 (in), 2 A9 (in), 3 A8 (in), 4 A13 (in), 5 A14 (in), 6 A17 (in), 7 WE# (in), 8 VCC (power), 9 A18 (in), 10 A16 (in), 11 A15 (in), 12 A12 (in), 13 A7 (in), 14 A6 (in), 15 A5 (in), 16 A4 (in), 17 A3 (in), 18 A2 (in), 19 A1 (in), 20 A0 (in), 21 DQ0 (io), 22 DQ1 (io), 23 DQ2 (io), 24 VSS (power), 25 DQ3 (io), 26 DQ4 (io), 27 DQ5 (io), 28 DQ6 (io), 29 DQ7 (io), 30 CE# (in), 31 A10 (in), 32 OE# (in)

## AM29LV040B-60REI
designator U?
4 Mb (512 K x 8) CMOS 3.0 Volt Uniform Sector Flash Memory, 32-Pin TSOP Standard Pinout, Industrial Grade; Published: 6-Oct-2005; DatasheetVersion: Jul-2005; PackageVersion: revAA, 10/99; PackageReference: TS032; Publisher: Altium Limited; PackageDescription: Thin Small Outline; 32 Leads; Body Width 18.4 mm; Pitch 0.5 mm; Code_JEDEC: MO-142-BD; ComponentLink1Description: Manufacturer Link; ComponentLink1URL: http://www.spansion.com/; ComponentLink2Description: Datasheet; ComponentLink2URL: http://www.spansion.com/datasheets/21354e2.pdf
footprint TS032 (Thin Small Outline; 32 Leads; Body Width 18.4 mm; Pitch 0.5 mm)
pins: 1 A11 (in), 2 A9 (in), 3 A8 (in), 4 A13 (in), 5 A14 (in), 6 A17 (in), 7 WE# (in), 8 VCC (power), 9 A18 (in), 10 A16 (in), 11 A15 (in), 12 A12 (in), 13 A7 (in), 14 A6 (in), 15 A5 (in), 16 A4 (in), 17 A3 (in), 18 A2 (in), 19 A1 (in), 20 A0 (in), 21 DQ0 (io), 22 DQ1 (io), 23 DQ2 (io), 24 VSS (power), 25 DQ3 (io), 26 DQ4 (io), 27 DQ5 (io), 28 DQ6 (io), 29 DQ7 (io), 30 CE# (in), 31 A10 (in), 32 OE# (in)

## AM29LV040B-60RFC
designator U?
4 Mb (512 K x 8) CMOS 3.0 Volt Uniform Sector Flash Memory, 32-Pin TSOP Reverse Pinout, Commercial Grade; Published: 6-Oct-2005; DatasheetVersion: Jul-2005; PackageVersion: revAA, 10/99; PackageReference: TSR032; Publisher: Altium Limited; PackageDescription: Thin Small Outline, Reverse Pinout; 32 Leads; Body Width 18.4 mm; Pitch 0.5 mm; Code_JEDEC: MO-142-BD; ComponentLink1Description: Manufacturer Link; ComponentLink1URL: http://www.spansion.com/; ComponentLink2Description: Datasheet; ComponentLink2URL: http://www.spansion.com/datasheets/21354e2.pdf
footprint TSR032 (Thin Small Outline, Reverse Pinout; 32 Leads; Body Width 18.4 mm; Pitch 0.5 mm)
pins: 1 OE# (in), 2 A10 (in), 3 CE# (in), 4 DQ7 (io), 5 DQ6 (io), 6 DQ5 (io), 7 DQ4 (io), 8 DQ3 (io), 9 VSS (power), 10 DQ2 (io), 11 DQ1 (io), 12 DQ0 (io), 13 A0 (in), 14 A1 (in), 15 A2 (in), 16 A3 (in), 17 A4 (in), 18 A5 (in), 19 A6 (in), 20 A7 (in), 21 A12 (in), 22 A15 (in), 23 A16 (in), 24 A18 (in), 25 VCC (power), 26 WE# (in), 27 A17 (in), 28 A14 (in), 29 A13 (in), 30 A8 (in), 31 A9 (in), 32 A11 (in)

## AM29LV040B-60RFI
designator U?
4 Mb (512 K x 8) CMOS 3.0 Volt Uniform Sector Flash Memory, 32-Pin TSOP Reverse Pinout, Industrial Grade; Published: 6-Oct-2005; DatasheetVersion: Jul-2005; PackageVersion: revAA, 10/99; PackageReference: TSR032; Publisher: Altium Limited; PackageDescription: Thin Small Outline, Reverse Pinout; 32 Leads; Body Width 18.4 mm; Pitch 0.5 mm; Code_JEDEC: MO-142-BD; ComponentLink1Description: Manufacturer Link; ComponentLink1URL: http://www.spansion.com/; ComponentLink2Description: Datasheet; ComponentLink2URL: http://www.spansion.com/datasheets/21354e2.pdf
footprint TSR032 (Thin Small Outline, Reverse Pinout; 32 Leads; Body Width 18.4 mm; Pitch 0.5 mm)
pins: 1 OE# (in), 2 A10 (in), 3 CE# (in), 4 DQ7 (io), 5 DQ6 (io), 6 DQ5 (io), 7 DQ4 (io), 8 DQ3 (io), 9 VSS (power), 10 DQ2 (io), 11 DQ1 (io), 12 DQ0 (io), 13 A0 (in), 14 A1 (in), 15 A2 (in), 16 A3 (in), 17 A4 (in), 18 A5 (in), 19 A6 (in), 20 A7 (in), 21 A12 (in), 22 A15 (in), 23 A16 (in), 24 A18 (in), 25 VCC (power), 26 WE# (in), 27 A17 (in), 28 A14 (in), 29 A13 (in), 30 A8 (in), 31 A9 (in), 32 A11 (in)

## AM29LV040B-60RJC
designator U?
4 Mb (512 K x 8) CMOS 3.0 Volt Uniform Sector Flash Memory, 32-Pin Rectangular PLCC, Commercial Grade; Published: 6-Oct-2005; DatasheetVersion: Jul-2005; PackageVersion: revAH, 10/99; PackageReference: PL032; Publisher: Altium Limited; PackageDescription: Leaded Chip Carrier, Plastic; 32 Leads; Body 11.4 x 14 mm; Code_JEDEC: MS-016-AE; Code_IPC: PLCC/R-32; ComponentLink1Description: Manufacturer Link; ComponentLink1URL: http://www.spansion.com/; ComponentLink2Description: Datasheet; ComponentLink2URL: http://www.spansion.com/datasheets/21354e2.pdf
footprint PL032 (Leaded Chip Carrier, Plastic; 32 Leads; Body 11.4 x 14 mm)
pins: 1 A18 (in), 2 A16 (in), 3 A15 (in), 4 A12 (in), 5 A7 (in), 6 A6 (in), 7 A5 (in), 8 A4 (in), 9 A3 (in), 10 A2 (in), 11 A1 (in), 12 A0 (in), 13 DQ0 (io), 14 DQ1 (io), 15 DQ2 (io), 16 VSS (power), 17 DQ3 (io), 18 DQ4 (io), 19 DQ5 (io), 20 DQ6 (io), 21 DQ7 (io), 22 CE# (in), 23 A10 (in), 24 OE# (in), 25 A11 (in), 26 A9 (in), 27 A8 (in), 28 A13 (in), 29 A14 (in), 30 A17 (in), 31 WE# (in), 32 VCC (power)

## AM29LV040B-60RJD
designator U?
4 Mb (512 K x 8) CMOS 3.0 Volt Uniform Sector Flash Memory, 32-Pin Rectangular PLCC, Commercial Grade, Pb-free; Published: 6-Oct-2005; DatasheetVersion: Jul-2005; PackageVersion: revAH, 10/99; PackageReference: PL032; Publisher: Altium Limited; PackageDescription: Leaded Chip Carrier, Plastic; 32 Leads; Body 11.4 x 14 mm; Code_JEDEC: MS-016-AE; Code_IPC: PLCC/R-32; ComponentLink1Description: Manufacturer Link; ComponentLink1URL: http://www.spansion.com/; ComponentLink2Description: Datasheet; ComponentLink2URL: http://www.spansion.com/datasheets/21354e2.pdf
footprint PL032 (Leaded Chip Carrier, Plastic; 32 Leads; Body 11.4 x 14 mm)
pins: 1 A18 (in), 2 A16 (in), 3 A15 (in), 4 A12 (in), 5 A7 (in), 6 A6 (in), 7 A5 (in), 8 A4 (in), 9 A3 (in), 10 A2 (in), 11 A1 (in), 12 A0 (in), 13 DQ0 (io), 14 DQ1 (io), 15 DQ2 (io), 16 VSS (power), 17 DQ3 (io), 18 DQ4 (io), 19 DQ5 (io), 20 DQ6 (io), 21 DQ7 (io), 22 CE# (in), 23 A10 (in), 24 OE# (in), 25 A11 (in), 26 A9 (in), 27 A8 (in), 28 A13 (in), 29 A14 (in), 30 A17 (in), 31 WE# (in), 32 VCC (power)

## AM29LV040B-60RJF
designator U?
4 Mb (512 K x 8) CMOS 3.0 Volt Uniform Sector Flash Memory, 32-Pin Rectangular PLCC, Industrial Grade, Pb-free; Published: 6-Oct-2005; DatasheetVersion: Jul-2005; PackageVersion: revAH, 10/99; PackageReference: PL032; Publisher: Altium Limited; PackageDescription: Leaded Chip Carrier, Plastic; 32 Leads; Body 11.4 x 14 mm; Code_JEDEC: MS-016-AE; Code_IPC: PLCC/R-32; ComponentLink1Description: Manufacturer Link; ComponentLink1URL: http://www.spansion.com/; ComponentLink2Description: Datasheet; ComponentLink2URL: http://www.spansion.com/datasheets/21354e2.pdf
footprint PL032 (Leaded Chip Carrier, Plastic; 32 Leads; Body 11.4 x 14 mm)
pins: 1 A18 (in), 2 A16 (in), 3 A15 (in), 4 A12 (in), 5 A7 (in), 6 A6 (in), 7 A5 (in), 8 A4 (in), 9 A3 (in), 10 A2 (in), 11 A1 (in), 12 A0 (in), 13 DQ0 (io), 14 DQ1 (io), 15 DQ2 (io), 16 VSS (power), 17 DQ3 (io), 18 DQ4 (io), 19 DQ5 (io), 20 DQ6 (io), 21 DQ7 (io), 22 CE# (in), 23 A10 (in), 24 OE# (in), 25 A11 (in), 26 A9 (in), 27 A8 (in), 28 A13 (in), 29 A14 (in), 30 A17 (in), 31 WE# (in), 32 VCC (power)

## AM29LV040B-60RJI
designator U?
4 Mb (512 K x 8) CMOS 3.0 Volt Uniform Sector Flash Memory, 32-Pin Rectangular PLCC, Industrial Grade; Published: 6-Oct-2005; DatasheetVersion: Jul-2005; PackageVersion: revAH, 10/99; PackageReference: PL032; Publisher: Altium Limited; PackageDescription: Leaded Chip Carrier, Plastic; 32 Leads; Body 11.4 x 14 mm; Code_JEDEC: MS-016-AE; Code_IPC: PLCC/R-32; ComponentLink1Description: Manufacturer Link; ComponentLink1URL: http://www.spansion.com/; ComponentLink2Description: Datasheet; ComponentLink2URL: http://www.spansion.com/datasheets/21354e2.pdf
footprint PL032 (Leaded Chip Carrier, Plastic; 32 Leads; Body 11.4 x 14 mm)
pins: 1 A18 (in), 2 A16 (in), 3 A15 (in), 4 A12 (in), 5 A7 (in), 6 A6 (in), 7 A5 (in), 8 A4 (in), 9 A3 (in), 10 A2 (in), 11 A1 (in), 12 A0 (in), 13 DQ0 (io), 14 DQ1 (io), 15 DQ2 (io), 16 VSS (power), 17 DQ3 (io), 18 DQ4 (io), 19 DQ5 (io), 20 DQ6 (io), 21 DQ7 (io), 22 CE# (in), 23 A10 (in), 24 OE# (in), 25 A11 (in), 26 A9 (in), 27 A8 (in), 28 A13 (in), 29 A14 (in), 30 A17 (in), 31 WE# (in), 32 VCC (power)

## AM29LV040B-70EC
designator U?
4 Mb (512 K x 8) CMOS 3.0 Volt Uniform Sector Flash Memory, 32-Pin TSOP Standard Pinout, Commercial Grade; Published: 6-Oct-2005; DatasheetVersion: Jul-2005; PackageVersion: revAA, 10/99; PackageReference: TS032; Publisher: Altium Limited; PackageDescription: Thin Small Outline; 32 Leads; Body Width 18.4 mm; Pitch 0.5 mm; Code_JEDEC: MO-142-BD; ComponentLink1Description: Manufacturer Link; ComponentLink1URL: http://www.spansion.com/; ComponentLink2Description: Datasheet; ComponentLink2URL: http://www.spansion.com/datasheets/21354e2.pdf
footprint TS032 (Thin Small Outline; 32 Leads; Body Width 18.4 mm; Pitch 0.5 mm)
pins: 1 A11 (in), 2 A9 (in), 3 A8 (in), 4 A13 (in), 5 A14 (in), 6 A17 (in), 7 WE# (in), 8 VCC (power), 9 A18 (in), 10 A16 (in), 11 A15 (in), 12 A12 (in), 13 A7 (in), 14 A6 (in), 15 A5 (in), 16 A4 (in), 17 A3 (in), 18 A2 (in), 19 A1 (in), 20 A0 (in), 21 DQ0 (io), 22 DQ1 (io), 23 DQ2 (io), 24 VSS (power), 25 DQ3 (io), 26 DQ4 (io), 27 DQ5 (io), 28 DQ6 (io), 29 DQ7 (io), 30 CE# (in), 31 A10 (in), 32 OE# (in)

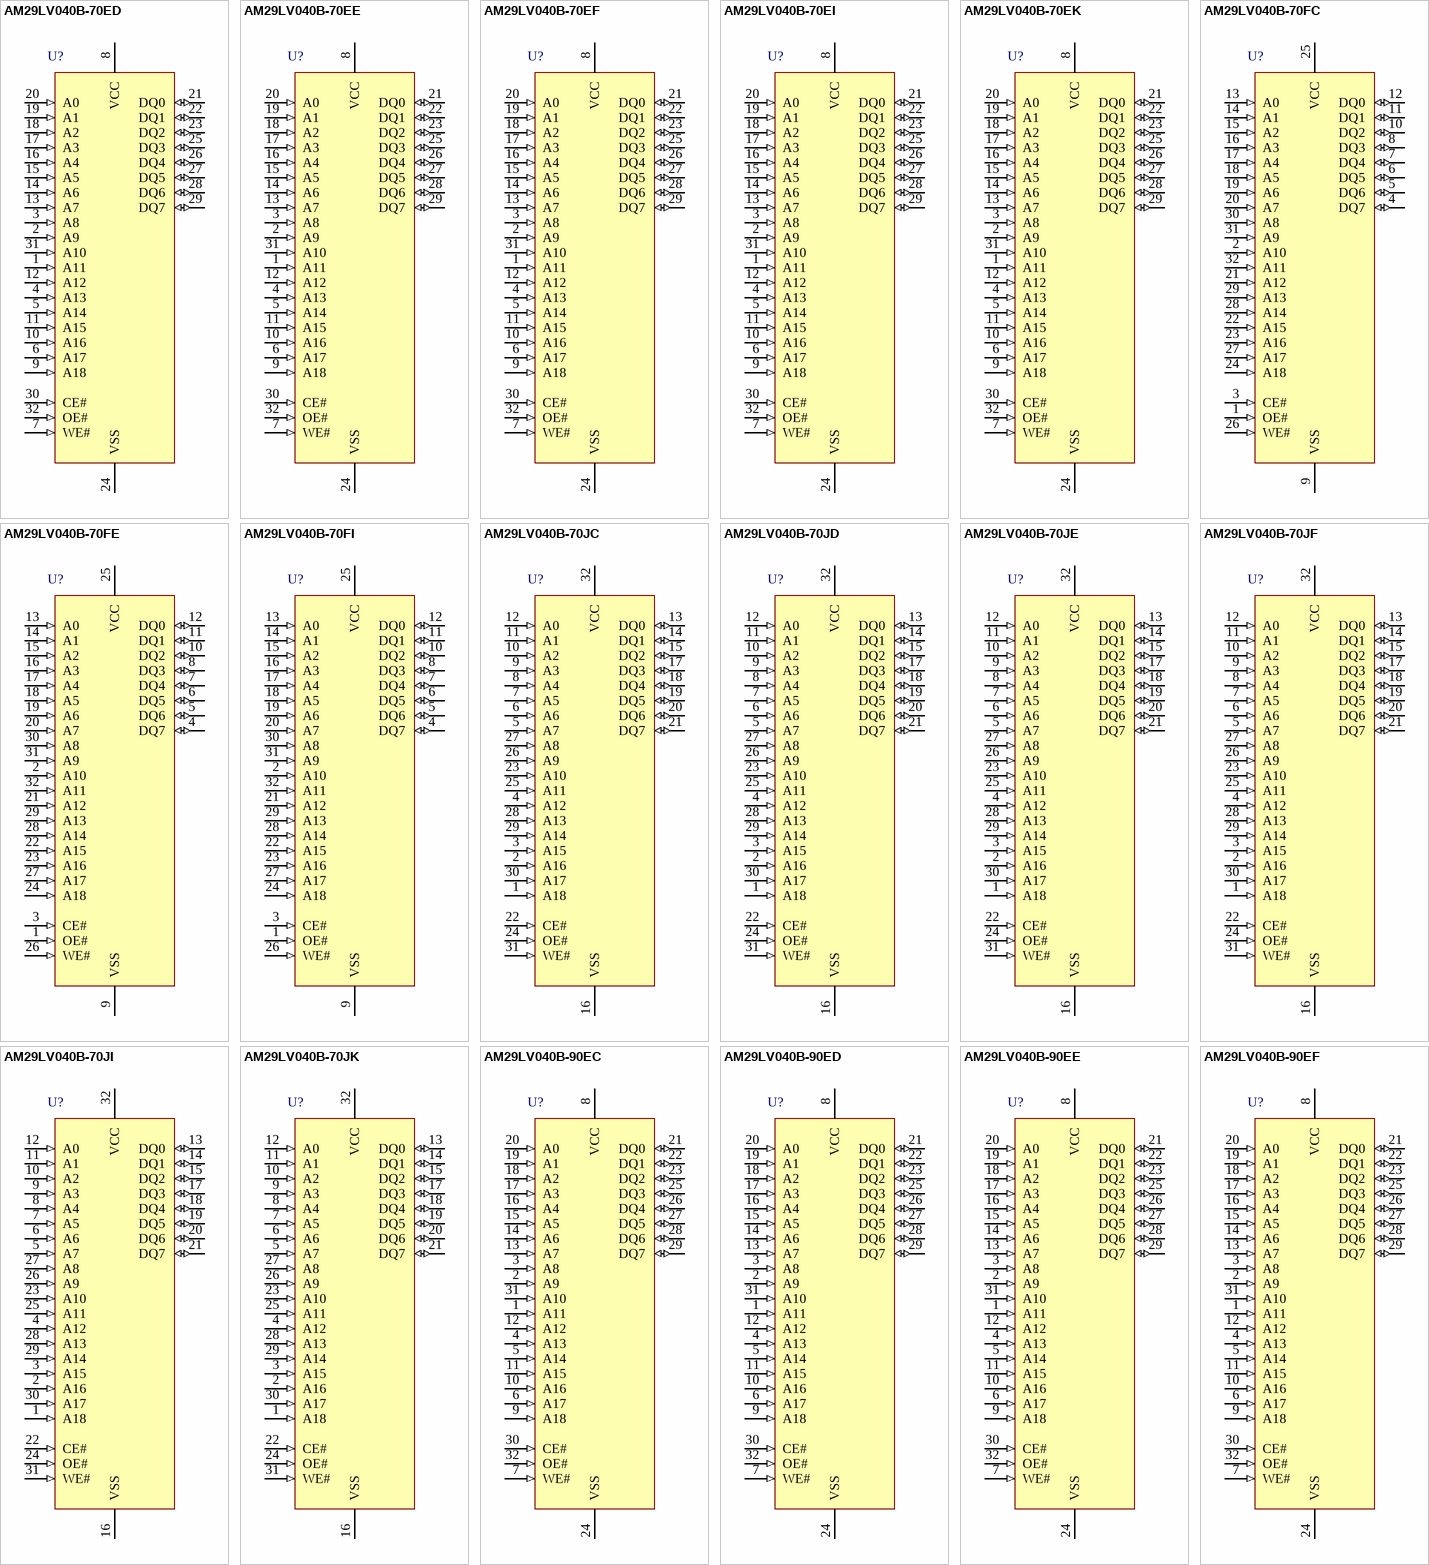
[diagram p21: symbols AM29LV040B-70ED to AM29LV040B-90EF]

## AM29LV040B-70ED
designator U?
4 Mb (512 K x 8) CMOS 3.0 Volt Uniform Sector Flash Memory, 32-Pin TSOP Standard Pinout, Commercial Grade, Pb-free; Published: 6-Oct-2005; DatasheetVersion: Jul-2005; PackageVersion: revAA, 10/99; PackageReference: TS032; Publisher: Altium Limited; PackageDescription: Thin Small Outline; 32 Leads; Body Width 18.4 mm; Pitch 0.5 mm; Code_JEDEC: MO-142-BD; ComponentLink1Description: Manufacturer Link; ComponentLink1URL: http://www.spansion.com/; ComponentLink2Description: Datasheet; ComponentLink2URL: http://www.spansion.com/datasheets/21354e2.pdf
footprint TS032 (Thin Small Outline; 32 Leads; Body Width 18.4 mm; Pitch 0.5 mm)
pins: 1 A11 (in), 2 A9 (in), 3 A8 (in), 4 A13 (in), 5 A14 (in), 6 A17 (in), 7 WE# (in), 8 VCC (power), 9 A18 (in), 10 A16 (in), 11 A15 (in), 12 A12 (in), 13 A7 (in), 14 A6 (in), 15 A5 (in), 16 A4 (in), 17 A3 (in), 18 A2 (in), 19 A1 (in), 20 A0 (in), 21 DQ0 (io), 22 DQ1 (io), 23 DQ2 (io), 24 VSS (power), 25 DQ3 (io), 26 DQ4 (io), 27 DQ5 (io), 28 DQ6 (io), 29 DQ7 (io), 30 CE# (in), 31 A10 (in), 32 OE# (in)

## AM29LV040B-70EE
designator U?
4 Mb (512 K x 8) CMOS 3.0 Volt Uniform Sector Flash Memory, 32-Pin TSOP Standard Pinout, Extended Grade; Published: 6-Oct-2005; DatasheetVersion: Jul-2005; PackageVersion: revAA, 10/99; PackageReference: TS032; Publisher: Altium Limited; PackageDescription: Thin Small Outline; 32 Leads; Body Width 18.4 mm; Pitch 0.5 mm; Code_JEDEC: MO-142-BD; ComponentLink1Description: Manufacturer Link; ComponentLink1URL: http://www.spansion.com/; ComponentLink2Description: Datasheet; ComponentLink2URL: http://www.spansion.com/datasheets/21354e2.pdf
footprint TS032 (Thin Small Outline; 32 Leads; Body Width 18.4 mm; Pitch 0.5 mm)
pins: 1 A11 (in), 2 A9 (in), 3 A8 (in), 4 A13 (in), 5 A14 (in), 6 A17 (in), 7 WE# (in), 8 VCC (power), 9 A18 (in), 10 A16 (in), 11 A15 (in), 12 A12 (in), 13 A7 (in), 14 A6 (in), 15 A5 (in), 16 A4 (in), 17 A3 (in), 18 A2 (in), 19 A1 (in), 20 A0 (in), 21 DQ0 (io), 22 DQ1 (io), 23 DQ2 (io), 24 VSS (power), 25 DQ3 (io), 26 DQ4 (io), 27 DQ5 (io), 28 DQ6 (io), 29 DQ7 (io), 30 CE# (in), 31 A10 (in), 32 OE# (in)

## AM29LV040B-70EF
designator U?
4 Mb (512 K x 8) CMOS 3.0 Volt Uniform Sector Flash Memory, 32-Pin TSOP Standard Pinout, Industrial Grade, Pb-free; Published: 6-Oct-2005; DatasheetVersion: Jul-2005; PackageVersion: revAA, 10/99; PackageReference: TS032; Publisher: Altium Limited; PackageDescription: Thin Small Outline; 32 Leads; Body Width 18.4 mm; Pitch 0.5 mm; Code_JEDEC: MO-142-BD; ComponentLink1Description: Manufacturer Link; ComponentLink1URL: http://www.spansion.com/; ComponentLink2Description: Datasheet; ComponentLink2URL: http://www.spansion.com/datasheets/21354e2.pdf
footprint TS032 (Thin Small Outline; 32 Leads; Body Width 18.4 mm; Pitch 0.5 mm)
pins: 1 A11 (in), 2 A9 (in), 3 A8 (in), 4 A13 (in), 5 A14 (in), 6 A17 (in), 7 WE# (in), 8 VCC (power), 9 A18 (in), 10 A16 (in), 11 A15 (in), 12 A12 (in), 13 A7 (in), 14 A6 (in), 15 A5 (in), 16 A4 (in), 17 A3 (in), 18 A2 (in), 19 A1 (in), 20 A0 (in), 21 DQ0 (io), 22 DQ1 (io), 23 DQ2 (io), 24 VSS (power), 25 DQ3 (io), 26 DQ4 (io), 27 DQ5 (io), 28 DQ6 (io), 29 DQ7 (io), 30 CE# (in), 31 A10 (in), 32 OE# (in)

## AM29LV040B-70EI
designator U?
4 Mb (512 K x 8) CMOS 3.0 Volt Uniform Sector Flash Memory, 32-Pin TSOP Standard Pinout, Industrial Grade; Published: 6-Oct-2005; DatasheetVersion: Jul-2005; PackageVersion: revAA, 10/99; PackageReference: TS032; Publisher: Altium Limited; PackageDescription: Thin Small Outline; 32 Leads; Body Width 18.4 mm; Pitch 0.5 mm; Code_JEDEC: MO-142-BD; ComponentLink1Description: Manufacturer Link; ComponentLink1URL: http://www.spansion.com/; ComponentLink2Description: Datasheet; ComponentLink2URL: http://www.spansion.com/datasheets/21354e2.pdf
footprint TS032 (Thin Small Outline; 32 Leads; Body Width 18.4 mm; Pitch 0.5 mm)
pins: 1 A11 (in), 2 A9 (in), 3 A8 (in), 4 A13 (in), 5 A14 (in), 6 A17 (in), 7 WE# (in), 8 VCC (power), 9 A18 (in), 10 A16 (in), 11 A15 (in), 12 A12 (in), 13 A7 (in), 14 A6 (in), 15 A5 (in), 16 A4 (in), 17 A3 (in), 18 A2 (in), 19 A1 (in), 20 A0 (in), 21 DQ0 (io), 22 DQ1 (io), 23 DQ2 (io), 24 VSS (power), 25 DQ3 (io), 26 DQ4 (io), 27 DQ5 (io), 28 DQ6 (io), 29 DQ7 (io), 30 CE# (in), 31 A10 (in), 32 OE# (in)

## AM29LV040B-70EK
designator U?
4 Mb (512 K x 8) CMOS 3.0 Volt Uniform Sector Flash Memory, 32-Pin TSOP Standard Pinout, Extended Grade, Pb-free; Published: 6-Oct-2005; DatasheetVersion: Jul-2005; PackageVersion: revAA, 10/99; PackageReference: TS032; Publisher: Altium Limited; PackageDescription: Thin Small Outline; 32 Leads; Body Width 18.4 mm; Pitch 0.5 mm; Code_JEDEC: MO-142-BD; ComponentLink1Description: Manufacturer Link; ComponentLink1URL: http://www.spansion.com/; ComponentLink2Description: Datasheet; ComponentLink2URL: http://www.spansion.com/datasheets/21354e2.pdf
footprint TS032 (Thin Small Outline; 32 Leads; Body Width 18.4 mm; Pitch 0.5 mm)
pins: 1 A11 (in), 2 A9 (in), 3 A8 (in), 4 A13 (in), 5 A14 (in), 6 A17 (in), 7 WE# (in), 8 VCC (power), 9 A18 (in), 10 A16 (in), 11 A15 (in), 12 A12 (in), 13 A7 (in), 14 A6 (in), 15 A5 (in), 16 A4 (in), 17 A3 (in), 18 A2 (in), 19 A1 (in), 20 A0 (in), 21 DQ0 (io), 22 DQ1 (io), 23 DQ2 (io), 24 VSS (power), 25 DQ3 (io), 26 DQ4 (io), 27 DQ5 (io), 28 DQ6 (io), 29 DQ7 (io), 30 CE# (in), 31 A10 (in), 32 OE# (in)

## AM29LV040B-70FC
designator U?
4 Mb (512 K x 8) CMOS 3.0 Volt Uniform Sector Flash Memory, 32-Pin TSOP Reverse Pinout, Commercial Grade; Published: 6-Oct-2005; DatasheetVersion: Jul-2005; PackageVersion: revAA, 10/99; PackageReference: TSR032; Publisher: Altium Limited; PackageDescription: Thin Small Outline, Reverse Pinout; 32 Leads; Body Width 18.4 mm; Pitch 0.5 mm; Code_JEDEC: MO-142-BD; ComponentLink1Description: Manufacturer Link; ComponentLink1URL: http://www.spansion.com/; ComponentLink2Description: Datasheet; ComponentLink2URL: http://www.spansion.com/datasheets/21354e2.pdf
footprint TSR032 (Thin Small Outline, Reverse Pinout; 32 Leads; Body Width 18.4 mm; Pitch 0.5 mm)
pins: 1 OE# (in), 2 A10 (in), 3 CE# (in), 4 DQ7 (io), 5 DQ6 (io), 6 DQ5 (io), 7 DQ4 (io), 8 DQ3 (io), 9 VSS (power), 10 DQ2 (io), 11 DQ1 (io), 12 DQ0 (io), 13 A0 (in), 14 A1 (in), 15 A2 (in), 16 A3 (in), 17 A4 (in), 18 A5 (in), 19 A6 (in), 20 A7 (in), 21 A12 (in), 22 A15 (in), 23 A16 (in), 24 A18 (in), 25 VCC (power), 26 WE# (in), 27 A17 (in), 28 A14 (in), 29 A13 (in), 30 A8 (in), 31 A9 (in), 32 A11 (in)

## AM29LV040B-70FE
designator U?
4 Mb (512 K x 8) CMOS 3.0 Volt Uniform Sector Flash Memory, 32-Pin TSOP Reverse Pinout, Extended Grade; Published: 6-Oct-2005; DatasheetVersion: Jul-2005; PackageVersion: revAA, 10/99; PackageReference: TSR032; Publisher: Altium Limited; PackageDescription: Thin Small Outline, Reverse Pinout; 32 Leads; Body Width 18.4 mm; Pitch 0.5 mm; Code_JEDEC: MO-142-BD; ComponentLink1Description: Manufacturer Link; ComponentLink1URL: http://www.spansion.com/; ComponentLink2Description: Datasheet; ComponentLink2URL: http://www.spansion.com/datasheets/21354e2.pdf
footprint TSR032 (Thin Small Outline, Reverse Pinout; 32 Leads; Body Width 18.4 mm; Pitch 0.5 mm)
pins: 1 OE# (in), 2 A10 (in), 3 CE# (in), 4 DQ7 (io), 5 DQ6 (io), 6 DQ5 (io), 7 DQ4 (io), 8 DQ3 (io), 9 VSS (power), 10 DQ2 (io), 11 DQ1 (io), 12 DQ0 (io), 13 A0 (in), 14 A1 (in), 15 A2 (in), 16 A3 (in), 17 A4 (in), 18 A5 (in), 19 A6 (in), 20 A7 (in), 21 A12 (in), 22 A15 (in), 23 A16 (in), 24 A18 (in), 25 VCC (power), 26 WE# (in), 27 A17 (in), 28 A14 (in), 29 A13 (in), 30 A8 (in), 31 A9 (in), 32 A11 (in)

## AM29LV040B-70FI
designator U?
4 Mb (512 K x 8) CMOS 3.0 Volt Uniform Sector Flash Memory, 32-Pin TSOP Reverse Pinout, Industrial Grade; Published: 6-Oct-2005; DatasheetVersion: Jul-2005; PackageVersion: revAA, 10/99; PackageReference: TSR032; Publisher: Altium Limited; PackageDescription: Thin Small Outline, Reverse Pinout; 32 Leads; Body Width 18.4 mm; Pitch 0.5 mm; Code_JEDEC: MO-142-BD; ComponentLink1Description: Manufacturer Link; ComponentLink1URL: http://www.spansion.com/; ComponentLink2Description: Datasheet; ComponentLink2URL: http://www.spansion.com/datasheets/21354e2.pdf
footprint TSR032 (Thin Small Outline, Reverse Pinout; 32 Leads; Body Width 18.4 mm; Pitch 0.5 mm)
pins: 1 OE# (in), 2 A10 (in), 3 CE# (in), 4 DQ7 (io), 5 DQ6 (io), 6 DQ5 (io), 7 DQ4 (io), 8 DQ3 (io), 9 VSS (power), 10 DQ2 (io), 11 DQ1 (io), 12 DQ0 (io), 13 A0 (in), 14 A1 (in), 15 A2 (in), 16 A3 (in), 17 A4 (in), 18 A5 (in), 19 A6 (in), 20 A7 (in), 21 A12 (in), 22 A15 (in), 23 A16 (in), 24 A18 (in), 25 VCC (power), 26 WE# (in), 27 A17 (in), 28 A14 (in), 29 A13 (in), 30 A8 (in), 31 A9 (in), 32 A11 (in)

## AM29LV040B-70JC
designator U?
4 Mb (512 K x 8) CMOS 3.0 Volt Uniform Sector Flash Memory, 32-Pin Rectangular PLCC, Commercial Grade; Published: 6-Oct-2005; DatasheetVersion: Jul-2005; PackageVersion: revAH, 10/99; PackageReference: PL032; Publisher: Altium Limited; PackageDescription: Leaded Chip Carrier, Plastic; 32 Leads; Body 11.4 x 14 mm; Code_JEDEC: MS-016-AE; Code_IPC: PLCC/R-32; ComponentLink1Description: Manufacturer Link; ComponentLink1URL: http://www.spansion.com/; ComponentLink2Description: Datasheet; ComponentLink2URL: http://www.spansion.com/datasheets/21354e2.pdf
footprint PL032 (Leaded Chip Carrier, Plastic; 32 Leads; Body 11.4 x 14 mm)
pins: 1 A18 (in), 2 A16 (in), 3 A15 (in), 4 A12 (in), 5 A7 (in), 6 A6 (in), 7 A5 (in), 8 A4 (in), 9 A3 (in), 10 A2 (in), 11 A1 (in), 12 A0 (in), 13 DQ0 (io), 14 DQ1 (io), 15 DQ2 (io), 16 VSS (power), 17 DQ3 (io), 18 DQ4 (io), 19 DQ5 (io), 20 DQ6 (io), 21 DQ7 (io), 22 CE# (in), 23 A10 (in), 24 OE# (in), 25 A11 (in), 26 A9 (in), 27 A8 (in), 28 A13 (in), 29 A14 (in), 30 A17 (in), 31 WE# (in), 32 VCC (power)

## AM29LV040B-70JD
designator U?
4 Mb (512 K x 8) CMOS 3.0 Volt Uniform Sector Flash Memory, 32-Pin Rectangular PLCC, Commercial Grade, Pb-free; Published: 6-Oct-2005; DatasheetVersion: Jul-2005; PackageVersion: revAH, 10/99; PackageReference: PL032; Publisher: Altium Limited; PackageDescription: Leaded Chip Carrier, Plastic; 32 Leads; Body 11.4 x 14 mm; Code_JEDEC: MS-016-AE; Code_IPC: PLCC/R-32; ComponentLink1Description: Manufacturer Link; ComponentLink1URL: http://www.spansion.com/; ComponentLink2Description: Datasheet; ComponentLink2URL: http://www.spansion.com/datasheets/21354e2.pdf
footprint PL032 (Leaded Chip Carrier, Plastic; 32 Leads; Body 11.4 x 14 mm)
pins: 1 A18 (in), 2 A16 (in), 3 A15 (in), 4 A12 (in), 5 A7 (in), 6 A6 (in), 7 A5 (in), 8 A4 (in), 9 A3 (in), 10 A2 (in), 11 A1 (in), 12 A0 (in), 13 DQ0 (io), 14 DQ1 (io), 15 DQ2 (io), 16 VSS (power), 17 DQ3 (io), 18 DQ4 (io), 19 DQ5 (io), 20 DQ6 (io), 21 DQ7 (io), 22 CE# (in), 23 A10 (in), 24 OE# (in), 25 A11 (in), 26 A9 (in), 27 A8 (in), 28 A13 (in), 29 A14 (in), 30 A17 (in), 31 WE# (in), 32 VCC (power)